# Altium schematic symbol library PHOTOINTERRUPTERS_SLOT_TYPE.SchLib: 1 symbol
Pins are listed as number, name and electrical type; pins without a type are passive.

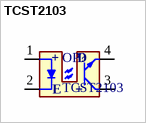
[diagram p0: symbol TCST2103]

## TCST2103
designator OP?
Optical Sensor Through-Beam 3.1mm Phototransistor Slotted Module, 4-Lead Dual Row; Manufacturer: Vishay; Collector-emitter Voltage-Max: 70V; Max Collector Current: 100mA; Forward Current: 60mA; Power Dissipation: 250mW; Wavelength: 950nm; Response Time: 8us; Reverse Voltage (DC): 6V; Forward Voltage: 1.25V; Number of Channels: 1; Rise Time: 10us; Current Transfer Ratio: 20%; Supplier: Mouser; Supplier Part Number: 782-TCST2103; Manufacturer Part Number: TCST2103; RoHS: No; Category: Optical Sensors; Stock: 8229; Pricing: 1=1.78000, 10=1.11000, 50=1.11000, 100=0.95500, 1000=0.85700, 10000=0.78700 (USD); Mounting Technology: Through Hole; Pins: 4; Contact Plating: Silver; Min Operating Temperature: -55°C; Max Operating Temperature: 85°C; Packaging: Rail/Tube; Package Quantity: 1020; Series: -; Sensing Distance: 3.1mm; Output Configuration: Phototransistor; Collector Emitter Breakdown Voltage: 70V; Fall Time: 8us; Number of Elements: 1; Reverse Breakdown Voltage: 6V; Collector Emitter Voltage (VCEO): 70V; Max Output current: 100mA; Length: 24.5mm; Width: 6.3mm; Height: 10.8mm; Radiation Hardening: No; Reach SVHC Compliant: No; ComponentLink1URL: https://datasheet.ciiva.com/11772/0900766b80e30a58-11772577.pdf?src-supplier=Rs; ComponentLink1Description: https://datasheet.ciiva.com/11772/0900766b80e30a58-11772577.pdf?src-supplier=Rs; Supplier 1: Mouser; Supplier Part Number 1: 782-TCST2103; Supplier 2: Digi-Key; Supplier Part Number 2: TCST2103-ND; Supplier 3: LCSC; Supplier Part Number 3: C3008864
footprint TCST2103 (Optical Sensor Through-Beam 3.1mm Phototransistor Slotted Module, 4-Lead Dual Row)
pins: 1 +, 2 E, 3 +, 4 D